# EAGLE library part PCB-SO-DIMM-144 (library con-dimm)
PCB SO DIMM 144 144 POS, 0.8mm PITCH
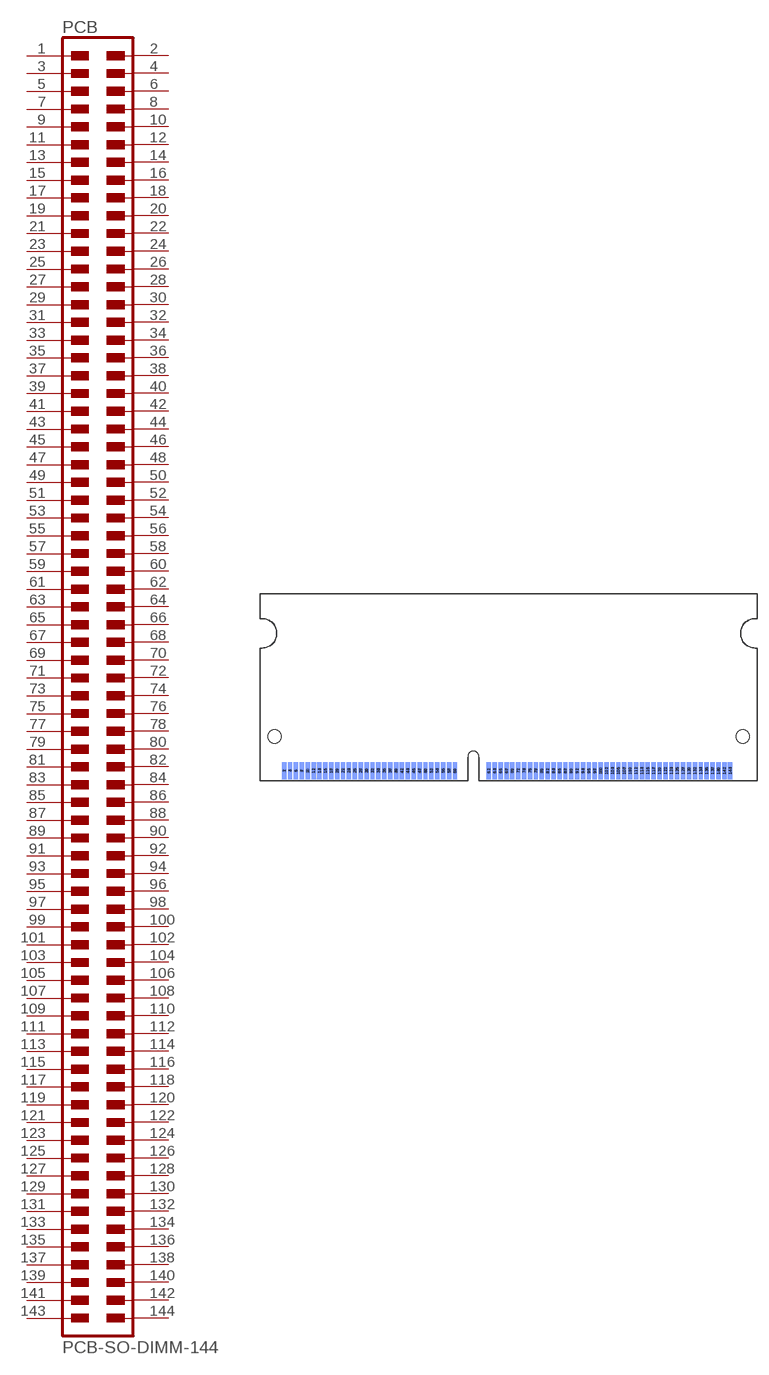
[diagram p2: symbol with the pads of PCB-SO-DIMM-144; footprint PCB-SO-DIMM-144]

Designator prefix PCB

## PCB-SO-DIMM-144  [PCB-SO-DIMM-144]
1  1
2  2
3  3
4  4
5  5
6  6
7  7
8  8
9  9
10  10
11  11
12  12
13  13
14  14
15  15
16  16
17  17
18  18
19  19
20  20
21  21
22  22
23  23
24  24
25  25
26  26
27  27
28  28
29  29
30  30
31  31
32  32
33  33
34  34
35  35
36  36
37  37
38  38
39  39
40  40
41  41
42  42
43  43
44  44
45  45
46  46
47  47
48  48
49  49
50  50
51  51
52  52
53  53
54  54
55  55
56  56
57  57
58  58
59  59
60  60
61  61
62  62
63  63
64  64
65  65
66  66
67  67
68  68
69  69
70  70
71  71
72  72
73  73
74  74
75  75
76  76
77  77
78  78
79  79
80  80
81  81
82  82
83  83
84  84
85  85
86  86
87  87
88  88
89  89
90  90
91  91
92  92
93  93
94  94
95  95
96  96
97  97
98  98
99  99
100  100
101  101
102  102
103  103
104  104
105  105
106  106
107  107
108  108
109  109
110  110
111  111
112  112
113  113
114  114
115  115
116  116
117  117
118  118
119  119
120  120
121  121
122  122
123  123
124  124
125  125
126  126
127  127
128  128
129  129
130  130
131  131
132  132
133  133
134  134
135  135
136  136
137  137
138  138
139  139
140  140
141  141
142  142
143  143
144  144

## Footprint PCB-SO-DIMM-144 (pad centres in mm)
PCB FOOTPRINT SO DIMM 144
smd 0.6 x 2.35: 1 -30.5,1.35; 3 -29.7,1.35; 5 -28.9,1.35; 7 -28.1,1.35; 9 -27.3,1.35; 11 -26.5,1.35; 13 -25.7,1.35; 15 -24.9,1.35; 17 -24.1,1.35; 19 -23.3,1.35; 21 -22.5,1.35; 23 -21.7,1.35; 25 -20.9,1.35; 27 -20.1,1.35; 29 -19.3,1.35; 31 -18.5,1.35; 33 -17.7,1.35; 35 -16.9,1.35; 37 -16.1,1.35; 39 -15.3,1.35; 41 -14.5,1.35; 43 -13.7,1.35; 45 -12.9,1.35; 47 -12.1,1.35; 49 -11.3,1.35; 51 -10.5,1.35; 53 -9.7,1.35; 55 -8.9,1.35; 57 -8.1,1.35; 59 -7.3,1.35; 61 -2.7,1.35; 63 -1.9,1.35; 65 -1.1,1.35; 67 -0.3,1.35; 69 0.5,1.35; 71 1.3,1.35; 73 2.1,1.35; 75 2.9,1.35; 77 3.7,1.35; 79 4.5,1.35; 81 5.3,1.35; 83 6.1,1.35; 85 6.9,1.35; 87 7.7,1.35; 89 8.5,1.35; 91 9.3,1.35; 93 10.1,1.35; 95 10.9,1.35; 97 11.7,1.35; 99 12.5,1.35; 101 13.3,1.35; 103 14.1,1.35; 105 14.9,1.35; 107 15.7,1.35; 109 16.5,1.35; 111 17.3,1.35; 113 18.1,1.35; 115 18.9,1.35; 117 19.7,1.35; 119 20.5,1.35; 121 21.3,1.35; 123 22.1,1.35; 125 22.9,1.35; 127 23.7,1.35; 129 24.5,1.35; 131 25.3,1.35; 133 26.1,1.35; 135 26.9,1.35; 137 27.7,1.35; 139 28.5,1.35; 141 29.3,1.35; 143 30.1,1.35
smd 0.6 x 2.35 bottom: 2 -30.5,1.35; 4 -29.7,1.35; 6 -28.9,1.35; 8 -28.1,1.35; 10 -27.3,1.35; 12 -26.5,1.35; 14 -25.7,1.35; 16 -24.9,1.35; 18 -24.1,1.35; 20 -23.3,1.35; 22 -22.5,1.35; 24 -21.7,1.35; 26 -20.9,1.35; 28 -20.1,1.35; 30 -19.3,1.35; 32 -18.5,1.35; 34 -17.7,1.35; 36 -16.9,1.35; 38 -16.1,1.35; 40 -15.3,1.35; 42 -14.5,1.35; 44 -13.7,1.35; 46 -12.9,1.35; 48 -12.1,1.35; 50 -11.3,1.35; 52 -10.5,1.35; 54 -9.7,1.35; 56 -8.9,1.35; 58 -8.1,1.35; 60 -7.3,1.35; 62 -2.7,1.35; 64 -1.9,1.35; 66 -1.1,1.35; 68 -0.3,1.35; 70 0.5,1.35; 72 1.3,1.35; 74 2.1,1.35; 76 2.9,1.35; 78 3.7,1.35; 80 4.5,1.35; 82 5.3,1.35; 84 6.1,1.35; 86 6.9,1.35; 88 7.7,1.35; 90 8.5,1.35; 92 9.3,1.35; 94 10.1,1.35; 96 10.9,1.35; 98 11.7,1.35; 100 12.5,1.35; 102 13.3,1.35; 104 14.1,1.35; 106 14.9,1.35; 108 15.7,1.35; 110 16.5,1.35; 112 17.3,1.35; 114 18.1,1.35; 116 18.9,1.35; 118 19.7,1.35; 120 20.5,1.35; 122 21.3,1.35; 124 22.1,1.35; 126 22.9,1.35; 128 23.7,1.35; 130 24.5,1.35; 132 25.3,1.35; 134 26.1,1.35; 136 26.9,1.35; 138 27.7,1.35; 140 28.5,1.35; 142 29.3,1.35; 144 30.1,1.35
hole 1.8 at -31.8,6
hole 1.8 at 31.8,6